# EAGLE library part 74HC595 (library 75HC595)
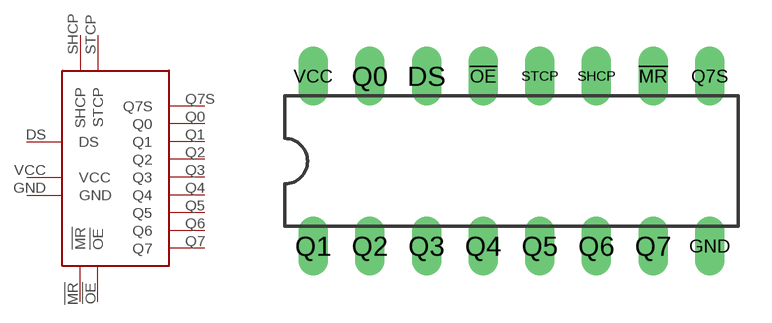
[diagram p0: symbol with the pads of DIL16; footprint DIL16]

Designator prefix -

## 74HC595  [DIL16]
!MR  !MR
!OE  !OE
DS  DS
GND  GND
Q0  Q0
Q1  Q1
Q2  Q2
Q3  Q3
Q4  Q4
Q5  Q5
Q6  Q6
Q7  Q7
Q7S  Q7S
SHCP  SHCP
STCP  STCP
VCC  VCC

## Footprint DIL16 (pad centres in mm)
Dual In Line Package
drill 0.813 long: !MR 6.35,3.81; !OE -1.27,3.81; DS -3.81,3.81; GND 8.89,-3.81; Q0 -6.35,3.81; Q1 -8.89,-3.81; Q2 -6.35,-3.81; Q3 -3.81,-3.81; Q4 -1.27,-3.81; Q5 1.27,-3.81; Q6 3.81,-3.81; Q7 6.35,-3.81; Q7S 8.89,3.81; SHCP 3.81,3.81; STCP 1.27,3.81; VCC -8.89,3.81